# Altium footprint library LMR33630.PcbLib: 2 footprints
Each footprint in its own frame and in the unit in brackets; x right, y up, seen from the top. Pads: shape width x height; smd on the part's side, far side on the other; paste and mask are expansions set on the pad; w line width, h text height; cw(c..) or ccw(c..) is an arc to the next point about the centre after c.
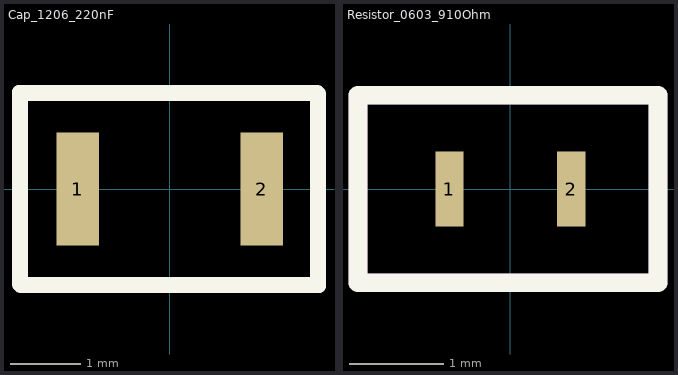
[diagram p0: the footprints below, top view; thin cyan lines are the x and y axes]

## Cap_1206_220nF [mm]
pads (2):
  rect 0.6x1.6 smd: 1(-1.3,0) 2(1.3,0)
Top Overlay:
  lines w0.2: -2.134,-1.346 2.083,-1.346 2.083,1.372 -2.134,1.372 -2.134,-1.346 ; -2.108,-1.372 2.108,-1.372 2.108,1.346 -2.108,1.346 -2.108,-1.372
Assembly Notes:
  lines w0.2: -2.134,-1.346 2.083,-1.346 2.083,1.372 -2.134,1.372 -2.134,-1.346 ; -2.108,-1.372 2.108,-1.372 2.108,1.346 -2.108,1.346 -2.108,-1.372
  text "'.Designator'" at -0.875,-0.442 h0.7
3D body "C1206_060.step": height 0.6, standoff 0, extent -1.6,-0.8 1.6,0.8

## Resistor_0603_910Ohm [mm]
pads (2):
  rect 0.3x0.8 smd: 1(-0.65,0) 2(0.65,0)
Top Overlay:
  lines w0.2: -1.625,-1 -1.625,1 1.575,1 1.575,-1 -1.625,-1
Assembly Notes:
  lines w0.2: -1.625,-1 -1.625,1 1.575,1 1.575,-1 -1.625,-1
  text "'.Designator'" at -1.525,-0.667 h0.7
3D body "RES0603.stp": height 0.45, standoff 0, extent -0.8,-0.4 0.8,0.4